# EAGLE library part BMS (library BMS)
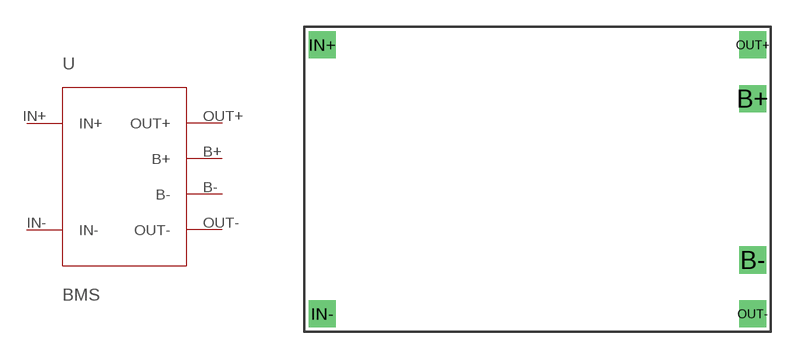
[diagram p0: symbol with the pads of BMS; footprint BMS]

Designator prefix -

## BMS  [BMS]
B+  B+
B-  B-
IN+  IN+
IN-  IN-
OUT+  OUT+
OUT-  OUT-

## Footprint BMS (pad centres in mm)
drill 1 square: B+ 25,-4; B- 25,-13; IN+ 1,-1; IN- 1,-16; OUT+ 25,-1; OUT- 25,-16